# Altium footprint library JST SM03B-SRSS-TB.PCBLIB: 1 footprints
Each footprint in its own frame and in the unit in brackets; x right, y up, seen from the top. Pads: shape width x height; smd on the part's side, far side on the other; paste and mask are expansions set on the pad; w line width, h text height; cw(c..) or ccw(c..) is an arc to the next point about the centre after c.
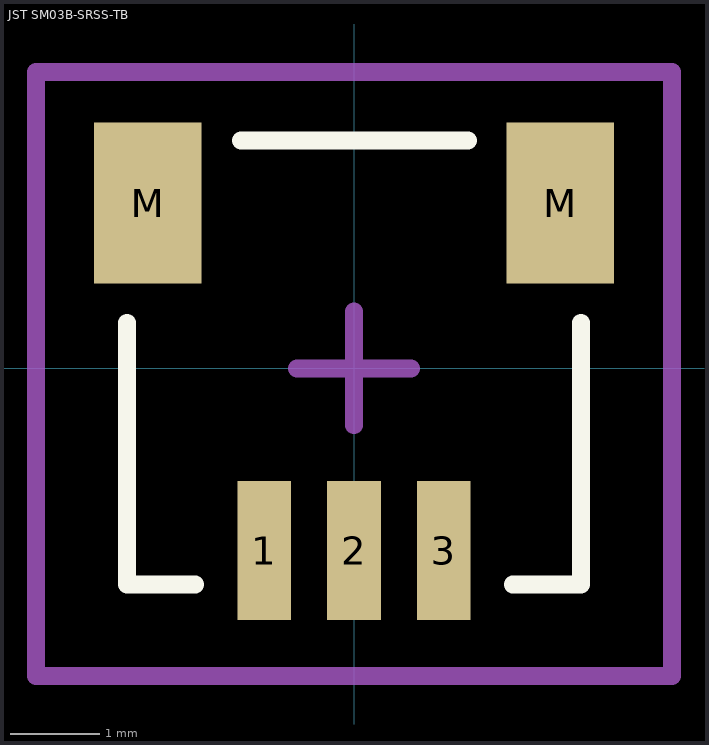
[diagram p0: the footprint, top view; thin cyan lines are the x and y axes]

## JST SM03B-SRSS-TB [mm] "1.0mm pitch/Disconnectable Crimp style connector"
height 2.95
pads (5):
  rect 0.6x1.55 smd: 1(-1,-2.032) 2(0,-2.032) 3(1,-2.032)
  rect 1.2x1.8 smd: M(-2.3,1.843) M(2.3,1.843)
Top Overlay:
  lines w0.2: -2.532,0.508 -2.532,-2.413 -1.77,-2.413 ; -1.262,2.54 1.27,2.54 ; 1.77,-2.413 2.532,-2.413 2.532,0.508
Mechanical 15:
  lines w0.2: -0.635,0 0.635,0 ; 0,-0.635 0,0.635 ; -3.548,-3.429 -3.548,3.302 3.548,3.302 3.548,-3.429 -3.548,-3.429
3D body "JST SM03B-SRSS-TB.STEP": height 2.95, standoff -0.01, extent -2.5,-2.383 2.5,2.567